# Altium footprint library Mosfet_Pcb.PcbLib: 15 footprints
Each footprint in its own frame and in the unit in brackets; x right, y up, seen from the top. Pads: shape width x height; smd on the part's side, far side on the other; paste and mask are expansions set on the pad; w line width, h text height; cw(c..) or ccw(c..) is an arc to the next point about the centre after c.
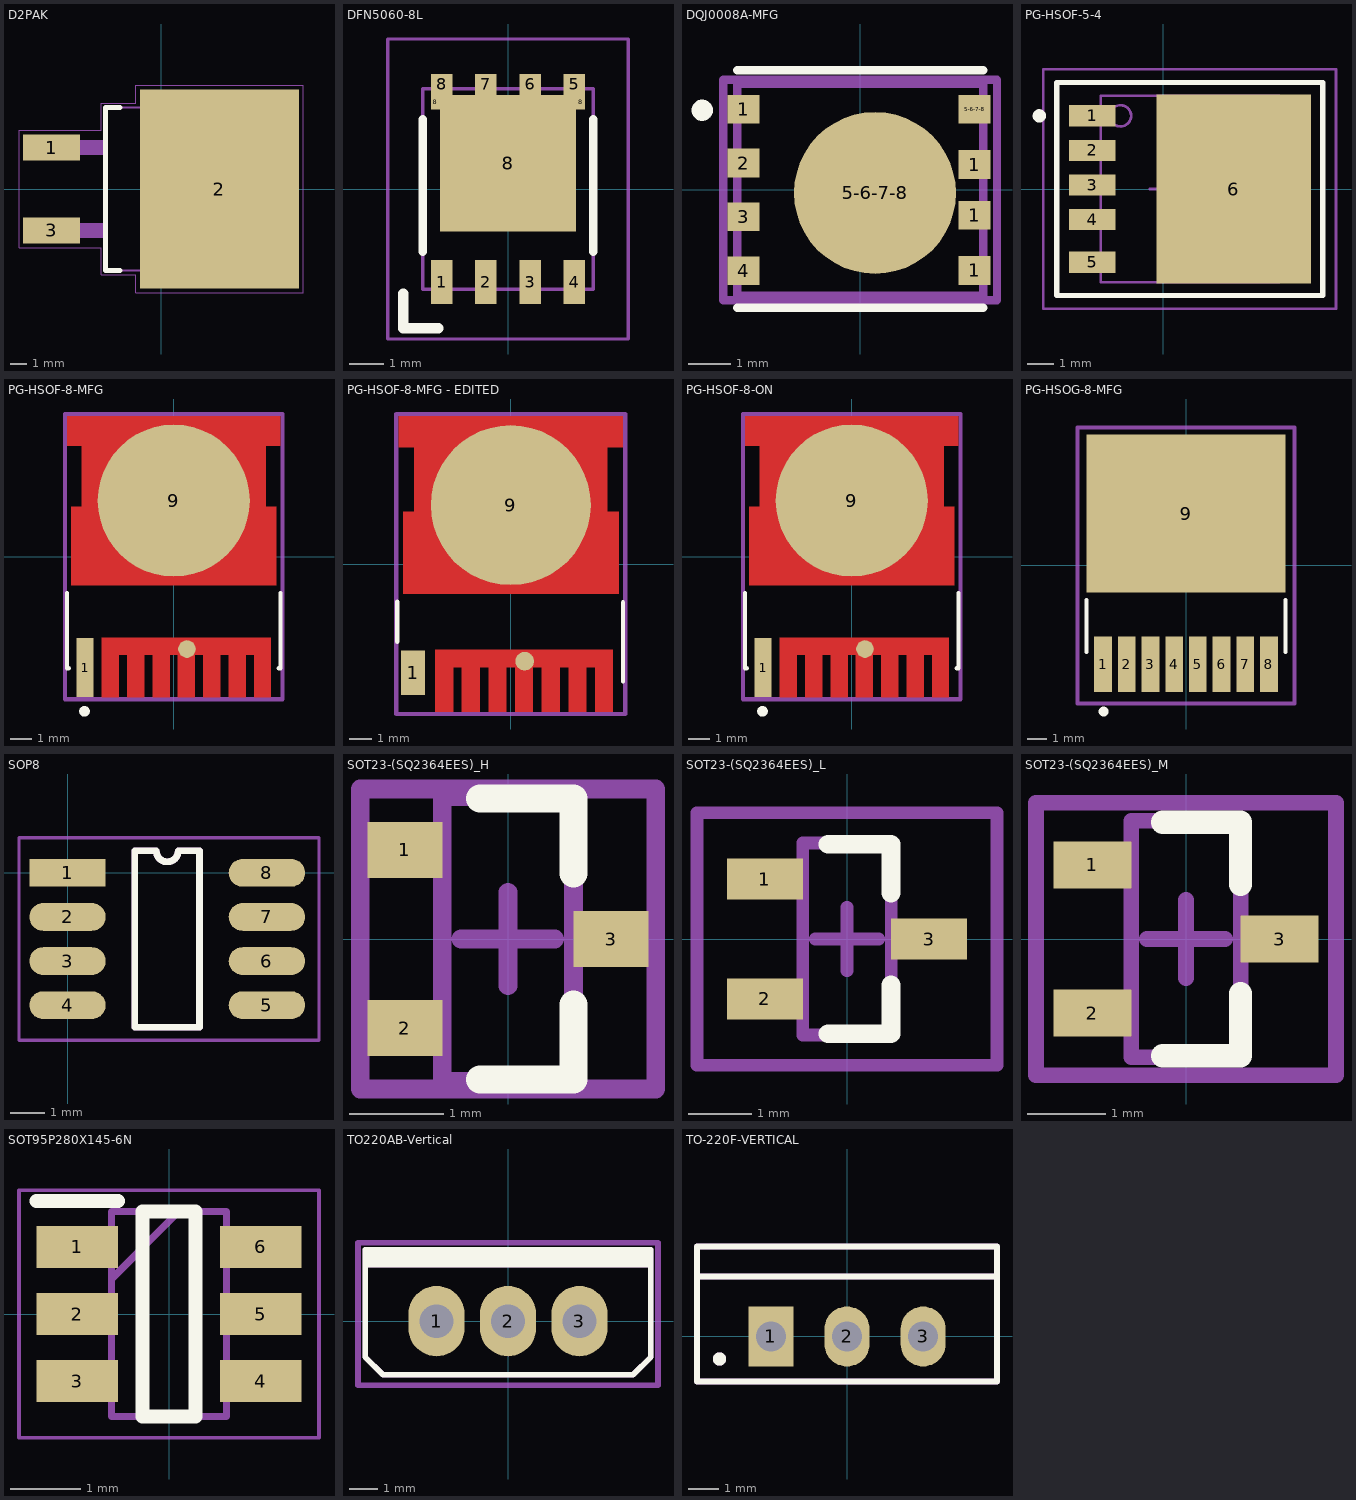
[diagram p0: the footprints below, top view; thin cyan lines are the x and y axes]

## D2PAK [mm]
pads (3):
  rect 3.5x1.6 smd: 1(-6.7,2.54) 3(-6.7,-2.54)
  rect 9.75x12.2 smd paste-7: 2(3.575,0)
Top Overlay:
  lines w0.3: -2.515,-5 -3.4,-5 -3.4,5 -2.515,5
Top Paste:
  region: 7.22,0.295 5.85,0.295 5.85,1.765 7.22,1.765
  region: 7.22,-1.766 5.844,-1.766 5.844,-0.295 7.22,-0.295
  region: 5.25,-1.767 3.875,-1.767 3.875,-0.295 5.25,-0.295
  region: 5.25,0.295 3.876,0.295 3.876,1.765 5.25,1.765
  region: 5.25,2.362 3.874,2.362 3.874,3.83 5.25,3.83
  region: 7.22,2.362 5.844,2.362 5.844,3.83 7.22,3.83
  region: 5.25,-3.836 3.876,-3.836 3.876,-2.36 5.25,-2.36
  region: 7.22,-3.837 5.85,-3.837 5.85,-2.36 7.22,-2.36
  region: 1.31,-1.767 -0.07,-1.767 -0.07,-0.295 1.31,-0.295
  region: 1.31,0.296 -0.07,0.296 -0.07,1.765 1.31,1.765
  region: 3.28,0.295 1.902,0.295 1.902,1.765 3.28,1.765
  region: 3.28,-1.766 1.902,-1.766 1.902,-0.295 3.28,-0.295
  region: 3.28,-3.835 1.902,-3.835 1.902,-2.36 3.28,-2.36
  region: 1.31,-3.834 -0.07,-3.834 -0.07,-2.36 1.31,-2.36
  region: 3.28,2.362 1.901,2.362 1.901,3.83 3.28,3.83
  region: 1.31,2.362 -0.07,2.362 -0.07,3.83 1.31,3.83
Mechanical 13:
  region: -3.4,2.094 -8.215,2.094 -8.215,2.99 -3.4,2.99
  region: -3.4,-2.996 -8.216,-2.996 -8.216,-2.09 -3.4,-2.09
  lines w0.127: -3.4,-5 7.4,-5 7.4,5 -3.4,5 -3.4,-5
  text ".Designator" at -1.947,-3.362 h1.5
Mechanical 15:
  lines w0.05: -8.7,-3.6 -3.65,-3.6 -3.65,-5.25 -1.55,-5.25 -1.55,-6.35 8.7,-6.35 8.7,6.35 -1.55,6.35 -1.55,5.25 -3.65,5.25 -3.65,3.6 -8.7,3.6 -8.7,-3.6
3D body "D2PAK-3-lead(TO-263-3).step": height 4.87, standoff 0, extent -7.64,-5.08 6.59,5.08

## DFN5060-8L [mm]
pads (11):
  rect 0.61x1.27 smd: 1(-1.905,-2.67) 2(-0.635,-2.67) 3(0.635,-2.67) 4(1.905,-2.67)
  rect 0.61x0.61 smd: 5(1.905,3) 6(0.635,3) 7(-0.635,3) 8(-1.905,3)
  rect 0.255x0.41 smd: 8(-2.082,2.49) 8(2.082,2.49)
  rect 3.91x3.91 smd: 8(0,0.74)
Top Overlay:
  lines w0.25: -2.45,-1.8 -2.45,2 ; 2.45,-1.8 2.45,2
  lines w0.3: -3,-3 -3,-4 -2,-4
Mechanical 13:
  lines w0.1: -2.45,-2.875 2.45,-2.875 2.45,2.875 -2.45,2.875 -2.45,-2.875
Mechanical 15:
  lines w0.1: -3.45,-4.305 3.45,-4.305 3.45,4.305 -3.45,4.305 -3.45,-4.305
3D body "PJQ5446-AU_R2_000A1.stp": height 1.2, standoff 0, extent -2.45,-3.244 2.45,3.244

## DQJ0008A-MFG [mm]
pads (9):
  rect 0.75x0.675 smd paste-1000 mask+0: 1(-2.752,1.905) 1(2.7,-1.9) 1(2.7,-0.6) 1(2.7,0.6) 2(-2.752,0.635) 3(-2.752,-0.635) 4(-2.752,-1.905) 5-6-7-8(2.7,1.9)
  round 3.821 smd paste-1000 mask+0: 5-6-7-8(0.35,-0.07)
Top Overlay:
  circle w0.25: c-3.725,1.88 r0.125
  lines w0.2: -2.9,-2.775 2.9,-2.775 ; -2.9,2.82 2.9,2.82
Top Paste:
  rectangle: 0.32,-1.88 1.905,-0.31
  rectangle: 0.32,0.31 1.905,1.88
  rectangle: -1.415,-1.88 -0.18,-0.31
  rectangle: -1.415,0.31 -0.18,1.88
  rectangle: 2.52,1.655 3.02,2.155
  rectangle: 2.52,0.385 3.02,0.885
  rectangle: 2.52,-0.885 3.02,-0.385
  rectangle: 2.52,-2.155 3.02,-1.655
  rectangle: -3.02,-2.155 -2.52,-1.655
  rectangle: -3.02,-0.885 -2.52,-0.385
  rectangle: -3.02,0.385 -2.52,0.885
  rectangle: -3.02,1.655 -2.52,2.155
Top Assembly (Mech5):
  lines w0.2: -3.227,-2.6 -3.227,2.6 3.227,2.6 3.227,-2.6 -3.227,-2.6
  text ".Designator" at 0,0 h1
Mechanical 13:
  lines w0.2: -2.9,-2.5 -2.9,2.5 2.9,2.5 2.9,-2.5 -2.9,-2.5
Mechanical 15:
  lines w0.2: -3.227,-2.6 -3.227,2.6 3.227,2.6 3.227,-2.6 -3.227,-2.6
Top Component Center (Mech16):
  lines w0.1: -0.5,0 0.5,0 ; 0,-0.5 0,0.5
3D body "Trans_Texas_Instruments_CSD19534Q5A_eec.STEP": height 0.25, standoff 0, extent -3.227,-2.6 3.227,2.6

## PG-HSOF-5-4 [mm] "HSOF;SMD, 6 pin, 6.70mm L X 7.00mm W X 2.30mm H body"
height 2.3
pads (6):
  rect 1.75x0.8 smd paste-0.05 mask-0.875: 1(-2.663,2.75) 2(-2.663,1.45) 3(-2.663,0.15) 4(-2.663,-1.15)
  rect 1.75x0.8 smd paste-0.05 mask+0: 5(-2.663,-2.75)
  rect 5.8x7.1 smd paste-3.55 mask+0: 6(2.663,0)
Top Overlay:
  circle w0.25: c-4.65,2.75 r0.125
  lines w0.2: -4,-4 -4,4 6,4 6,-4 -4,-4
Top Paste:
  region: 4.413,0.2 4.413,3.45 5.413,3.45 5.413,0.2
  region: 4.413,-3.45 4.413,-0.2 5.413,-0.2 5.413,-3.45
  region: -0.087,-3.2 -0.087,-0.2 0.913,-0.2 0.913,-3.2
  region: -0.087,0.2 -0.087,3.2 0.913,3.2 0.913,0.2
  region: 1.413,0.2 1.413,3.2 2.413,3.2 2.413,0.2
  region: 1.413,-3.2 1.413,-0.2 2.413,-0.2 2.413,-3.2
  region: 2.913,-2.9 2.913,-0.2 3.913,-0.2 3.913,-2.9
  region: 2.913,0.2 2.913,2.9 3.913,2.9 3.913,0.2
Mechanical 13:
  circle w0.1: c-1.6,2.75 r0.4
  lines w0.1: -2.338,-3.5 4.362,-3.5 4.362,3.5 -2.338,3.5 -2.338,-3.5
  text ".Designator" at -1.405,-0.535 h1.25
Mechanical 15:
  lines w0.1: -0.5,0 0.5,0 ; 0,-0.5 0,0.5 ; -4.5,-4.5 -4.5,4.5 6.5,4.5 6.5,-4.5 -4.5,-4.5
3D body "PG-HSOF-5-1.STEP": height 2.3, standoff 0, extent -2.937,-3.5 5.063,3.5

## PG-HSOF-8-MFG [mm]
pads (3):
  rect 0.8x2.8 smd paste-1000 mask+0: 1(-4.2,-5.25)
  round 0.837 smd paste-1000 mask+0: 2..8(0.625,-4.375)
  round 7.2 smd paste-1000 mask+0: 9(0,2.65)
Top Layer:
  region: -5.05,6.65 5.05,6.65 5.05,5.25 4.35,5.25 4.35,2.35 4.85,2.35 4.85,-1.35 -4.85,-1.35 -4.85,2.35 -4.35,2.35 -4.35,5.25 -5.05,5.25
  region: -3.4,-3.85 4.6,-3.85 4.6,-6.65 3.8,-6.65 3.8,-4.65 3.4,-4.65 3.4,-6.65 2.6,-6.65 2.6,-4.65 2.2,-4.65 2.2,-6.65 1.4,-6.65 1.4,-4.65 1,-4.65 1,-6.65 0.2,-6.65 0.2,-4.65 -0.2,-4.65 -0.2,-6.65 -1,-6.65 -1,-4.65 -1.4,-4.65 -1.4,-6.65 -2.2,-6.65 -2.2,-4.65 -2.6,-4.65 -2.6,-6.65 -3.4,-6.65
Top Overlay:
  circle w0.25: c-4.225,-7.325 r0.125
  lines w0.2: -5.05,-1.725 -5.05,-5.288 -4.975,-5.288 ; 4.975,-5.288 5.05,-5.288 5.05,-1.725
Top Paste:
  circle w0.5: c-4.2,5.83 r0.25
  circle w0.5: c-3,5.83 r0.25
  circle w0.5: c-1.8,5.83 r0.25
  circle w0.5: c-0.6,5.83 r0.25
  circle w0.5: c0.6,5.83 r0.25
  circle w0.5: c1.8,5.83 r0.25
  circle w0.5: c3,5.83 r0.25
  circle w0.5: c4.2,5.83 r0.25
  circle w0.5: c-3,4.63 r0.25
  circle w0.5: c-1.8,4.63 r0.25
  circle w0.5: c-0.6,4.63 r0.25
  circle w0.5: c0.6,4.63 r0.25
  circle w0.5: c1.8,4.63 r0.25
  circle w0.5: c3,4.63 r0.25
  circle w0.5: c-3,3.43 r0.25
  circle w0.5: c-1.8,3.43 r0.25
  circle w0.5: c-0.6,3.43 r0.25
  circle w0.5: c0.6,3.43 r0.25
  circle w0.5: c1.8,3.43 r0.25
  circle w0.5: c3,3.43 r0.25
  circle w0.5: c-3,2.23 r0.25
  circle w0.5: c-1.8,2.23 r0.25
  circle w0.5: c-0.6,2.23 r0.25
  circle w0.5: c0.6,2.23 r0.25
  circle w0.5: c1.8,2.23 r0.25
  circle w0.5: c3,2.23 r0.25
  circle w0.5: c-4.2,1.03 r0.25
  circle w0.5: c-3,1.03 r0.25
  circle w0.5: c-1.8,1.03 r0.25
  circle w0.5: c-0.6,1.03 r0.25
  circle w0.5: c0.6,1.03 r0.25
  circle w0.5: c1.8,1.03 r0.25
  circle w0.5: c3,1.03 r0.25
  circle w0.5: c4.2,1.03 r0.25
  circle w0.5: c-4.2,-0.17 r0.25
  circle w0.5: c-3,-0.17 r0.25
  circle w0.5: c-1.8,-0.17 r0.25
  circle w0.5: c-0.6,-0.17 r0.25
  circle w0.5: c0.6,-0.17 r0.25
  circle w0.5: c1.8,-0.17 r0.25
  circle w0.5: c3,-0.17 r0.25
  circle w0.5: c4.2,-0.17 r0.25
  rectangle: -4.55,-6.55 -3.85,-3.95
  rectangle: -3.35,-6.55 -2.65,-3.95
  rectangle: -2.15,-6.55 -1.45,-3.95
  rectangle: -0.95,-6.55 -0.25,-3.95
  rectangle: 0.25,-6.55 0.95,-3.95
  rectangle: 1.45,-6.55 2.15,-3.95
  rectangle: 2.65,-6.55 3.35,-3.95
  rectangle: 3.85,-6.55 4.55,-3.95
Mechanical 15:
  lines w0.2: -5.15,-6.75 5.15,-6.75 5.15,6.75 -5.15,6.75 -5.15,-6.75
3D body "Trans_Infineon_IAUT300N10S5N015ATMA1_eec.STEP": height 0.25, standoff 0, extent -5.15,-6.75 5.15,6.75

## PG-HSOF-8-MFG - EDITED [mm]
pads (3):
  rect 1.1x2 smd paste-1000 mask+0: 1(-4.4,-4.9)
  round 0.837 smd paste-1000 mask+0: 2-3-4-5-6-7-8(0.625,-4.375)
  round 7.2 smd paste-1000 mask+0: 9(0,2.65)
Top Layer:
  region: -5.05,6.65 5.05,6.65 5.05,5.25 4.35,5.25 4.35,2.35 4.85,2.35 4.85,-1.35 -4.85,-1.35 -4.85,2.35 -4.35,2.35 -4.35,5.25 -5.05,5.25
  region: -3.4,-3.85 4.6,-3.85 4.6,-6.65 3.8,-6.65 3.8,-4.65 3.4,-4.65 3.4,-6.65 2.6,-6.65 2.6,-4.65 2.2,-4.65 2.2,-6.65 1.4,-6.65 1.4,-4.65 1,-4.65 1,-6.65 0.2,-6.65 0.2,-4.65 -0.2,-4.65 -0.2,-6.65 -1,-6.65 -1,-4.65 -1.4,-4.65 -1.4,-6.65 -2.2,-6.65 -2.2,-4.65 -2.6,-4.65 -2.6,-6.65 -3.4,-6.65
Top Overlay:
  lines w0.2: -5.1,-3.5 -5.1,-1.7 ; 5.05,-5.288 5.05,-1.725
Top Paste:
  circle w0.5: c-4.2,5.83 r0.25
  circle w0.5: c-3,5.83 r0.25
  circle w0.5: c-1.8,5.83 r0.25
  circle w0.5: c-0.6,5.83 r0.25
  circle w0.5: c0.6,5.83 r0.25
  circle w0.5: c1.8,5.83 r0.25
  circle w0.5: c3,5.83 r0.25
  circle w0.5: c4.2,5.83 r0.25
  circle w0.5: c-3,4.63 r0.25
  circle w0.5: c-1.8,4.63 r0.25
  circle w0.5: c-0.6,4.63 r0.25
  circle w0.5: c0.6,4.63 r0.25
  circle w0.5: c1.8,4.63 r0.25
  circle w0.5: c3,4.63 r0.25
  circle w0.5: c-3,3.43 r0.25
  circle w0.5: c-1.8,3.43 r0.25
  circle w0.5: c-0.6,3.43 r0.25
  circle w0.5: c0.6,3.43 r0.25
  circle w0.5: c1.8,3.43 r0.25
  circle w0.5: c3,3.43 r0.25
  circle w0.5: c-3,2.23 r0.25
  circle w0.5: c-1.8,2.23 r0.25
  circle w0.5: c-0.6,2.23 r0.25
  circle w0.5: c0.6,2.23 r0.25
  circle w0.5: c1.8,2.23 r0.25
  circle w0.5: c3,2.23 r0.25
  circle w0.5: c-4.2,1.03 r0.25
  circle w0.5: c-3,1.03 r0.25
  circle w0.5: c-1.8,1.03 r0.25
  circle w0.5: c-0.6,1.03 r0.25
  circle w0.5: c0.6,1.03 r0.25
  circle w0.5: c1.8,1.03 r0.25
  circle w0.5: c3,1.03 r0.25
  circle w0.5: c4.2,1.03 r0.25
  circle w0.5: c-4.2,-0.17 r0.25
  circle w0.5: c-3,-0.17 r0.25
  circle w0.5: c-1.8,-0.17 r0.25
  circle w0.5: c-0.6,-0.17 r0.25
  circle w0.5: c0.6,-0.17 r0.25
  circle w0.5: c1.8,-0.17 r0.25
  circle w0.5: c3,-0.17 r0.25
  circle w0.5: c4.2,-0.17 r0.25
  rectangle: -4.55,-6.55 -3.85,-3.95
  rectangle: -3.35,-6.55 -2.65,-3.95
  rectangle: -2.15,-6.55 -1.45,-3.95
  rectangle: -0.95,-6.55 -0.25,-3.95
  rectangle: 0.25,-6.55 0.95,-3.95
  rectangle: 1.45,-6.55 2.15,-3.95
  rectangle: 2.65,-6.55 3.35,-3.95
  rectangle: 3.85,-6.55 4.55,-3.95
Mechanical 15:
  lines w0.2: -5.15,-6.75 5.15,-6.75 5.15,6.75 -5.15,6.75 -5.15,-6.75
3D body "Trans_Infineon_IAUT300N10S5N015ATMA1_eec.STEP": height 0.25, standoff 0, extent -5.15,-6.75 5.15,6.75

## PG-HSOF-8-ON [mm]
pads (3):
  rect 0.8x2.8 smd paste-1000 mask+0: 1(-4.2,-5.25)
  round 0.837 smd paste-1000 mask+0: 2..8(0.625,-4.375)
  round 7.2 smd paste-1000 mask+0: 9(0,2.65)
Top Layer:
  region: -5.05,6.65 5.05,6.65 5.05,5.25 4.35,5.25 4.35,2.35 4.85,2.35 4.85,-1.35 -4.85,-1.35 -4.85,2.35 -4.35,2.35 -4.35,5.25 -5.05,5.25
  region: -3.4,-3.85 4.6,-3.85 4.6,-6.65 3.8,-6.65 3.8,-4.65 3.4,-4.65 3.4,-6.65 2.6,-6.65 2.6,-4.65 2.2,-4.65 2.2,-6.65 1.4,-6.65 1.4,-4.65 1,-4.65 1,-6.65 0.2,-6.65 0.2,-4.65 -0.2,-4.65 -0.2,-6.65 -1,-6.65 -1,-4.65 -1.4,-4.65 -1.4,-6.65 -2.2,-6.65 -2.2,-4.65 -2.6,-4.65 -2.6,-6.65 -3.4,-6.65
Top Overlay:
  circle w0.25: c-4.225,-7.325 r0.125
  lines w0.2: -5.05,-1.725 -5.05,-5.288 -4.975,-5.288 ; 4.975,-5.288 5.05,-5.288 5.05,-1.725
Top Paste:
  circle w0.5: c4.2,-0.17 r0.25
  circle w0.5: c3,-0.17 r0.25
  circle w0.5: c1.8,-0.17 r0.25
  circle w0.5: c0.6,-0.17 r0.25
  circle w0.5: c-0.6,-0.17 r0.25
  circle w0.5: c-1.8,-0.17 r0.25
  circle w0.5: c-3,-0.17 r0.25
  circle w0.5: c-4.2,-0.17 r0.25
  circle w0.5: c4.2,1.03 r0.25
  circle w0.5: c3,1.03 r0.25
  circle w0.5: c1.8,1.03 r0.25
  circle w0.5: c0.6,1.03 r0.25
  circle w0.5: c-0.6,1.03 r0.25
  circle w0.5: c-1.8,1.03 r0.25
  circle w0.5: c-3,1.03 r0.25
  circle w0.5: c-4.2,1.03 r0.25
  circle w0.5: c3,2.23 r0.25
  circle w0.5: c1.8,2.23 r0.25
  circle w0.5: c0.6,2.23 r0.25
  circle w0.5: c-0.6,2.23 r0.25
  circle w0.5: c-1.8,2.23 r0.25
  circle w0.5: c-3,2.23 r0.25
  circle w0.5: c3,3.43 r0.25
  circle w0.5: c1.8,3.43 r0.25
  circle w0.5: c0.6,3.43 r0.25
  circle w0.5: c-0.6,3.43 r0.25
  circle w0.5: c-1.8,3.43 r0.25
  circle w0.5: c-3,3.43 r0.25
  circle w0.5: c3,4.63 r0.25
  circle w0.5: c1.8,4.63 r0.25
  circle w0.5: c0.6,4.63 r0.25
  circle w0.5: c-0.6,4.63 r0.25
  circle w0.5: c-1.8,4.63 r0.25
  circle w0.5: c-3,4.63 r0.25
  circle w0.5: c4.2,5.83 r0.25
  circle w0.5: c3,5.83 r0.25
  circle w0.5: c1.8,5.83 r0.25
  circle w0.5: c0.6,5.83 r0.25
  circle w0.5: c-0.6,5.83 r0.25
  circle w0.5: c-1.8,5.83 r0.25
  circle w0.5: c-3,5.83 r0.25
  circle w0.5: c-4.2,5.83 r0.25
  rectangle: 3.85,-6.55 4.55,-3.95
  rectangle: 2.65,-6.55 3.35,-3.95
  rectangle: 1.45,-6.55 2.15,-3.95
  rectangle: 0.25,-6.55 0.95,-3.95
  rectangle: -0.95,-6.55 -0.25,-3.95
  rectangle: -2.15,-6.55 -1.45,-3.95
  rectangle: -3.35,-6.55 -2.65,-3.95
  rectangle: -4.55,-6.55 -3.85,-3.95
Mechanical 15:
  lines w0.2: -5.15,-6.75 -5.15,6.75 5.15,6.75 5.15,-6.75 -5.15,-6.75
3D body "Trans_ON_Semiconductor_FDBL86210-F085_eec.STEP": height 0.25, standoff 0, extent -5.2,-6.74 5.2,6.74

## PG-HSOG-8-MFG [mm]
pads (9):
  rect 0.9x2.8 smd paste-1000 mask+0: 1(-4.2,-5) 2(-3,-5) 3(-1.8,-5) 4(-0.6,-5) 5(0.6,-5) 6(1.8,-5) 7(3,-5) 8(4.2,-5)
  rect 10.1x8 smd paste-1000 mask+0: 9(0,2.625)
Top Overlay:
  circle w0.25: c-4.175,-7.4 r0.125
  lines w0.2: -5.05,-4.375 -5.05,-1.75 ; 5.05,-4.375 5.05,-1.75
Top Paste:
  rectangle: 0.25,-1.275 4.75,-0.425
  rectangle: -4.75,-1.275 -0.25,-0.425
  rectangle: 0.25,0.275 4.75,1.375
  rectangle: -4.75,0.275 -0.25,1.375
  rectangle: 0.25,2.075 4.25,3.175
  rectangle: -4.25,2.075 -0.25,3.175
  rectangle: 0.25,3.875 4.25,4.975
  rectangle: -4.25,3.875 -0.25,4.975
  rectangle: 0.25,5.675 4.75,6.525
  rectangle: -4.75,5.675 -0.25,6.525
  rectangle: 3.8,-6.35 4.6,-3.65
  rectangle: 2.6,-6.35 3.4,-3.65
  rectangle: 1.4,-6.35 2.2,-3.65
  rectangle: 0.2,-6.35 1,-3.65
  rectangle: -1,-6.35 -0.2,-3.65
  rectangle: -2.2,-6.35 -1.4,-3.65
  rectangle: -3.4,-6.35 -2.6,-3.65
  rectangle: -4.6,-6.35 -3.8,-3.65
Mechanical 15:
  lines w0.2: -1,0 1,0 ; 0,-1 0,1 ; -5.5,-7 5.5,-7 ; -5.5,-7 -5.5,7 ; -5.5,-7 5.5,-7 ; -5.5,-7 -5.5,7 ; -5.5,7 5.5,7 ; -5.5,7 5.5,7 ; 5.5,-7 5.5,7 ; 5.5,-7 5.5,7
3D body "Trans_Infineon_IPTG014N10NM5ATMA1_eec.STEP": height 0.25, standoff 0, extent -5.15,-6.5 5.15,6.725

## SOP8 [mm]
pads (8):
  rect 2.2x0.8 smd: 1(0,0)
  oval 2.2x0.8 smd: 2(0,-1.27) 3(0,-2.54) 4(0,-3.81) 5(5.74,-3.81) 6(5.74,-2.54) 7(5.74,-1.27) 8(5.74,0)
Top Overlay:
  lines w0.2: 1.935,-4.445 1.935,0.635 2.552,0.635 ccw(c2.87,0.635) 3.187,0.635 3.805,0.635 3.805,-4.445 1.935,-4.445
Mechanical 13:
  lines w0.2: 1.935,-4.445 1.935,0.635 2.552,0.635 ccw(c2.87,0.635) 3.187,0.635 3.805,0.635 3.805,-4.445 1.935,-4.445
  text ".Designator" at -0.352,0.678 h1.5
Mechanical 15:
  lines w0.1: -1.397,-4.826 7.239,-4.826 7.239,1.016 -1.397,1.016 -1.397,-4.826
3D body "SOP8.step": height 1.76, standoff 0.01, extent -0.179,-4.405 6.021,0.595

## SOT23-(SQ2364EES)_H [mm]
height 1.12
pads (3):
  rect 0.8x0.6 smd: 1(-1.1,0.95) 2(-1.1,-0.95) 3(1.1,0)
Top Overlay:
  lines w0.3: -0.3,-1.5 0.7,-1.5 0.7,-0.7 ; -0.3,1.5 0.7,1.5 0.7,0.7
Mechanical 13:
  lines w0.2: -0.7,-1.52 0.7,-1.52 0.7,1.52 -0.7,1.52 -0.7,-1.52
Mechanical 15:
  lines w0.2: -0.5,0 0.5,0 ; 0,-0.5 0,0.5 ; -1.575,-1.6 1.575,-1.6 1.575,1.6 -1.575,1.6 -1.575,-1.6
3D body "SOT23-3.stp": height 1.01, standoff 0.01, extent -1.1,-1.45 1.2,1.45

## SOT23-(SQ2364EES)_L [mm]
height 1.12
pads (3):
  rect 1.2x0.65 smd: 1(-1.3,0.95) 2(-1.3,-0.95) 3(1.3,0)
Top Overlay:
  lines w0.3: -0.3,-1.5 0.7,-1.5 0.7,-0.725 ; -0.3,1.5 0.7,1.5 0.7,0.725
Mechanical 13:
  lines w0.2: -0.7,-1.52 0.7,-1.52 0.7,1.52 -0.7,1.52 -0.7,-1.52
Mechanical 15:
  lines w0.2: -0.5,0 0.5,0 ; 0,-0.5 0,0.5 ; -2.375,-2 2.375,-2 2.375,2 -2.375,2 -2.375,-2
3D body "SOT23-3.stp": height 1.01, standoff 0.01, extent -1.1,-1.45 1.2,1.45

## SOT23-(SQ2364EES)_M [mm]
height 1.12
pads (3):
  rect 1x0.6 smd: 1(-1.2,0.95) 2(-1.2,-0.95) 3(1.2,0)
Top Overlay:
  lines w0.3: -0.3,-1.5 0.7,-1.5 0.7,-0.7 ; -0.3,1.5 0.7,1.5 0.7,0.7
Mechanical 13:
  lines w0.2: -0.7,-1.52 0.7,-1.52 0.7,1.52 -0.7,1.52 -0.7,-1.52
Mechanical 15:
  lines w0.2: -0.5,0 0.5,0 ; 0,-0.5 0,0.5 ; -1.925,-1.75 1.925,-1.75 1.925,1.75 -1.925,1.75 -1.925,-1.75
3D body "SOT23-3.stp": height 1.01, standoff 0.01, extent -1.1,-1.45 1.2,1.45

## SOT95P280X145-6N [mm]
pads (6):
  rect 1.15x0.6 smd: 1(-1.3,0.95) 2(-1.3,0) 3(-1.3,-0.95) 4(1.3,-0.95) 5(1.3,0) 6(1.3,0.95)
Top Overlay:
  lines w0.2: -1.875,1.6 -0.725,1.6 ; -0.375,-1.45 0.375,-1.45 0.375,1.45 -0.375,1.45 -0.375,-1.45
Mechanical 13:
  lines w0.1: -0.812,0.5 0.138,1.45 ; -0.812,-1.45 0.812,-1.45 0.812,1.45 -0.812,1.45 -0.812,-1.45
Mechanical 15:
  lines w0.05: -2.125,-1.75 2.125,-1.75 2.125,1.75 -2.125,1.75 -2.125,-1.75
3D body "IRF5803TRPBF.stp": height 1.45, standoff 0, extent -1.4,-1.45 1.4,1.45

## TO220AB-Vertical [mm]
pads (3):
  oval 2x2.5 hole 1.2: 1(-2.54,0) 2(0,0) 3(2.54,0)
Top Overlay:
  rectangle: -5.08,1.905 5.08,2.54
  lines w0.2: -5.08,-1.27 -5.08,0 -5.08,2.54 0,2.54 5.08,2.54 5.08,-1.27 4.445,-1.905 -4.445,-1.905 -5.08,-1.27
Mechanical 13:
  rectangle: -5.08,1.905 5.08,2.54
  lines w0.2: -5.08,-1.27 -4.445,-1.905 4.445,-1.905 5.08,-1.27 5.08,2.54 0,2.54 -5.08,2.54 -5.08,0 -5.08,-1.27
  text ".Designator" at -2.582,-1.457 h1.5
Mechanical 15:
  lines w0.2: -0.762,0 0.762,0 ; 0,-0.762 0,0.762 ; -5.334,-2.286 -5.334,2.794 5.334,2.794 5.334,-2.286 -5.334,-2.286
3D body "TO220-AB PCB.step": height 20.05, standoff -3.5, extent -4.95,-1.931 4.95,2.526

## TO-220F-VERTICAL [mm]
pads (3):
  rect 1.5x2 hole 1: 1(-2.54,0)
  oval 1.5x2 hole 1: 2(0,0) 3(2.54,0)
Top Overlay:
  circle w0.3: c-4.25,-0.75 r0.071
  lines w0.2: -5,2 5,2 ; -5,-1.5 5,-1.5 5,0 5,3 4,3 -3.5,3 -5,3 -5,0 -5,-1.5
M29:
  circle w0.3: c-4.25,-0.75 r0.071
  lines w0.2: -5,2 5,2 ; -5,-1.5 5,-1.5 5,0 5,3 4,3 -3.5,3 -5,3 -5,0 -5,-1.5
3D body "TO-220F.step": height 19.06, standoff -10.31, extent -5.07,-1.763 5.07,2.957